# Altium footprint library Battery_Protection.PcbLib: 4 footprints
Each footprint in its own frame and in the unit in brackets; x right, y up, seen from the top. Pads: shape width x height; smd on the part's side, far side on the other; paste and mask are expansions set on the pad; w line width, h text height; cw(c..) or ccw(c..) is an arc to the next point about the centre after c.
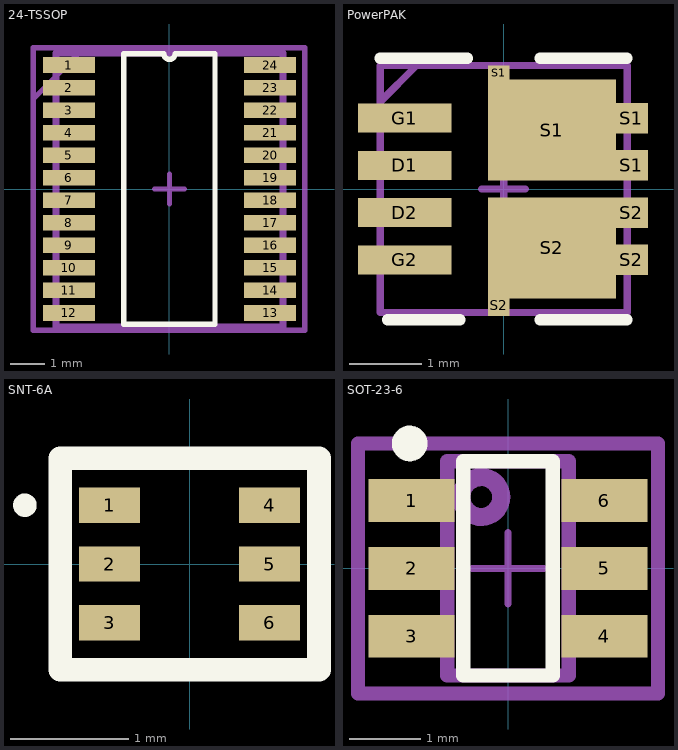
[diagram p0: the footprints below, top view; thin cyan lines are the x and y axes]

## 24-TSSOP [mm]
pads (24):
  rect 1.5x0.45 smd: 1(-2.9,3.575) 2(-2.9,2.925) 3(-2.9,2.275) 4(-2.9,1.625) 5(-2.9,0.975) 6(-2.9,0.325) 7(-2.9,-0.325) 8(-2.9,-0.975) 9(-2.9,-1.625) 10(-2.9,-2.275) 11(-2.9,-2.925) 12(-2.9,-3.575) 13(2.9,-3.575) 14(2.9,-2.925) 15(2.9,-2.275) 16(2.9,-1.625) 17(2.9,-0.975) 18(2.9,-0.325) 19(2.9,0.325) 20(2.9,0.975) 21(2.9,1.625) 22(2.9,2.275) 23(2.9,2.925) 24(2.9,3.575)
Top Overlay:
  lines w0.153: -1.315,-3.9 1.315,-3.9 1.315,3.9 0.162,3.9 cw(c0,3.9) -0.162,3.9 -1.315,3.9 -1.315,-3.9
Top Solder:
  rectangle: 2,-3.925 3.775,3.925
  rectangle: -3.775,-3.95 -2,3.9
Top Assembly:
  lines w0.153: -3.913,2.613 -2.463,4.063 ; -3.925,-4.075 3.9,-4.075 3.9,4.075 -3.925,4.075 -3.925,-4.075
  text "'.Designator'" at -4.497,4.72 h0.8
3D:
  lines w0.2: -3.275,-3.975 -3.275,3.925 3.275,3.925 3.275,-3.975 -3.275,-3.975
Mechanical 15:
  lines w0.153: -0.425,0 0.425,0 ; 0,-0.425 0,0.425 ; -3.925,-4.075 -3.925,4.075 3.9,4.075 3.9,-4.075 -3.925,-4.075
3D body "User Library-TSSOP24_(JEDEC_MO-153).STEP": height 1.2, standoff 0, extent -3.278,-3.975 3.278,3.925

## PowerPAK [mm]
pads (12):
  rect 1.29x0.4 smd: D1(-1.36,0.325) D2(-1.36,-0.325) G1(-1.36,0.975) G2(-1.36,-0.975)
  rect 0.3x0.2 smd: S1(-0.066,1.6)
  rect 1.76x1.39 smd: S1(0.664,0.81) S2(0.664,-0.81)
  rect 0.45x0.42 smd: S1(1.76,0.325) S1(1.76,0.975) S2(1.76,-0.975) S2(1.76,-0.325)
  rect 0.3x0.3 smd: S2(-0.066,-1.6)
Top Overlay:
  lines w0.153: -1.7,1.8 -0.5,1.8 ; -1.6,-1.8 -0.6,-1.8 ; 0.5,-1.8 1.7,-1.8 ; 0.5,1.8 1.7,1.8
  text "." at -2.247,1.753 h0.8
Top Solder:
  rectangle: -0.325,-1.3 2.125,1.3
Top Assembly:
  lines w0.1: -1.7,1.2 -1.2,1.7 ; -1.7,-1.7 1.7,-1.7 1.7,1.7 -1.7,1.7 -1.7,-1.7
  text "'.Designator'" at -3.472,2.42 h0.8
Mechanical 15:
  lines w0.1: -0.3,0 0,0 ; 0,-0.3 0,0 ; 0,0.3 0,0 ; 0.3,0 0,0 ; -1.7,-1.7 1.7,-1.7 1.7,1.7 -1.7,1.7 -1.7,-1.7
3D body "User Library-PowerPAK 1212-8S.STEP": height 0.8, standoff 0, extent -1.7,-1.7 1.7,1.7

## SNT-6A [mm]
pads (6):
  rect 0.52x0.3 smd: 1(-0.68,0.5) 2(-0.68,0) 3(-0.68,-0.5) 4(0.68,0.5) 5(0.68,0) 6(0.68,-0.5)
Top Overlay:
  circle w0.1: c-1.4,0.5 r0.05
  lines w0.2: -1.1,-0.9 -1.1,0.9 1.1,0.9 1.1,-0.9 -1.1,-0.9
Top Assembly:
  text "'.Designator'" at -1.547,1.445 h0.8
3D body "User Library-VMT6.STEP": height 0.53, standoff -0.02, extent -0.6,-0.6 0.6,0.6

## SOT-23-6 [mm] "SOT23, 6-Leads, Body 2,90x2,80mm, Pitch 0,95mm, IPC Medium Density"
height 1.45
pads (6):
  rect 1.2x0.6 smd: 1(-1.35,0.95) 2(-1.35,0) 3(-1.35,-0.95) 4(1.35,-0.95) 5(1.35,0) 6(1.35,0.95)
Top Overlay:
  circle w0.25: c-1.375,1.75 r0.125
  lines w0.2: -0.625,-1.5 -0.625,1.5 0.625,1.5 0.625,-1.5 -0.625,-1.5
Top Assembly:
  circle w0.254: c-0.375,1 r0.28
  lines w0.2: -0.85,-1.5 0.85,-1.5 0.85,1.5 -0.85,1.5 -0.85,-1.5
  text "'.Designator'" at -2.222,2.47 h0.8
Mechanical 15:
  lines w0.1: -0.5,0 0.5,0 ; 0,-0.5 0,0.5
  lines w0.2: -2.1,-1.75 2.1,-1.75 2.1,1.75 -2.1,1.75 -2.1,-1.75
3D body "User Library-SOT23-6-4.STEP": height 1, standoff -0.1, extent -1.24,-1.442 1.16,1.458